# Altium footprint library Inductor_SMD.PcbLib: 587 footprints (part 2 of 37)
Each footprint in its own frame and in the unit in brackets; x right, y up, seen from the top. Pads: shape width x height; smd on the part's side, far side on the other; paste and mask are expansions set on the pad; w line width, h text height; cw(c..) or ccw(c..) is an arc to the next point about the centre after c.
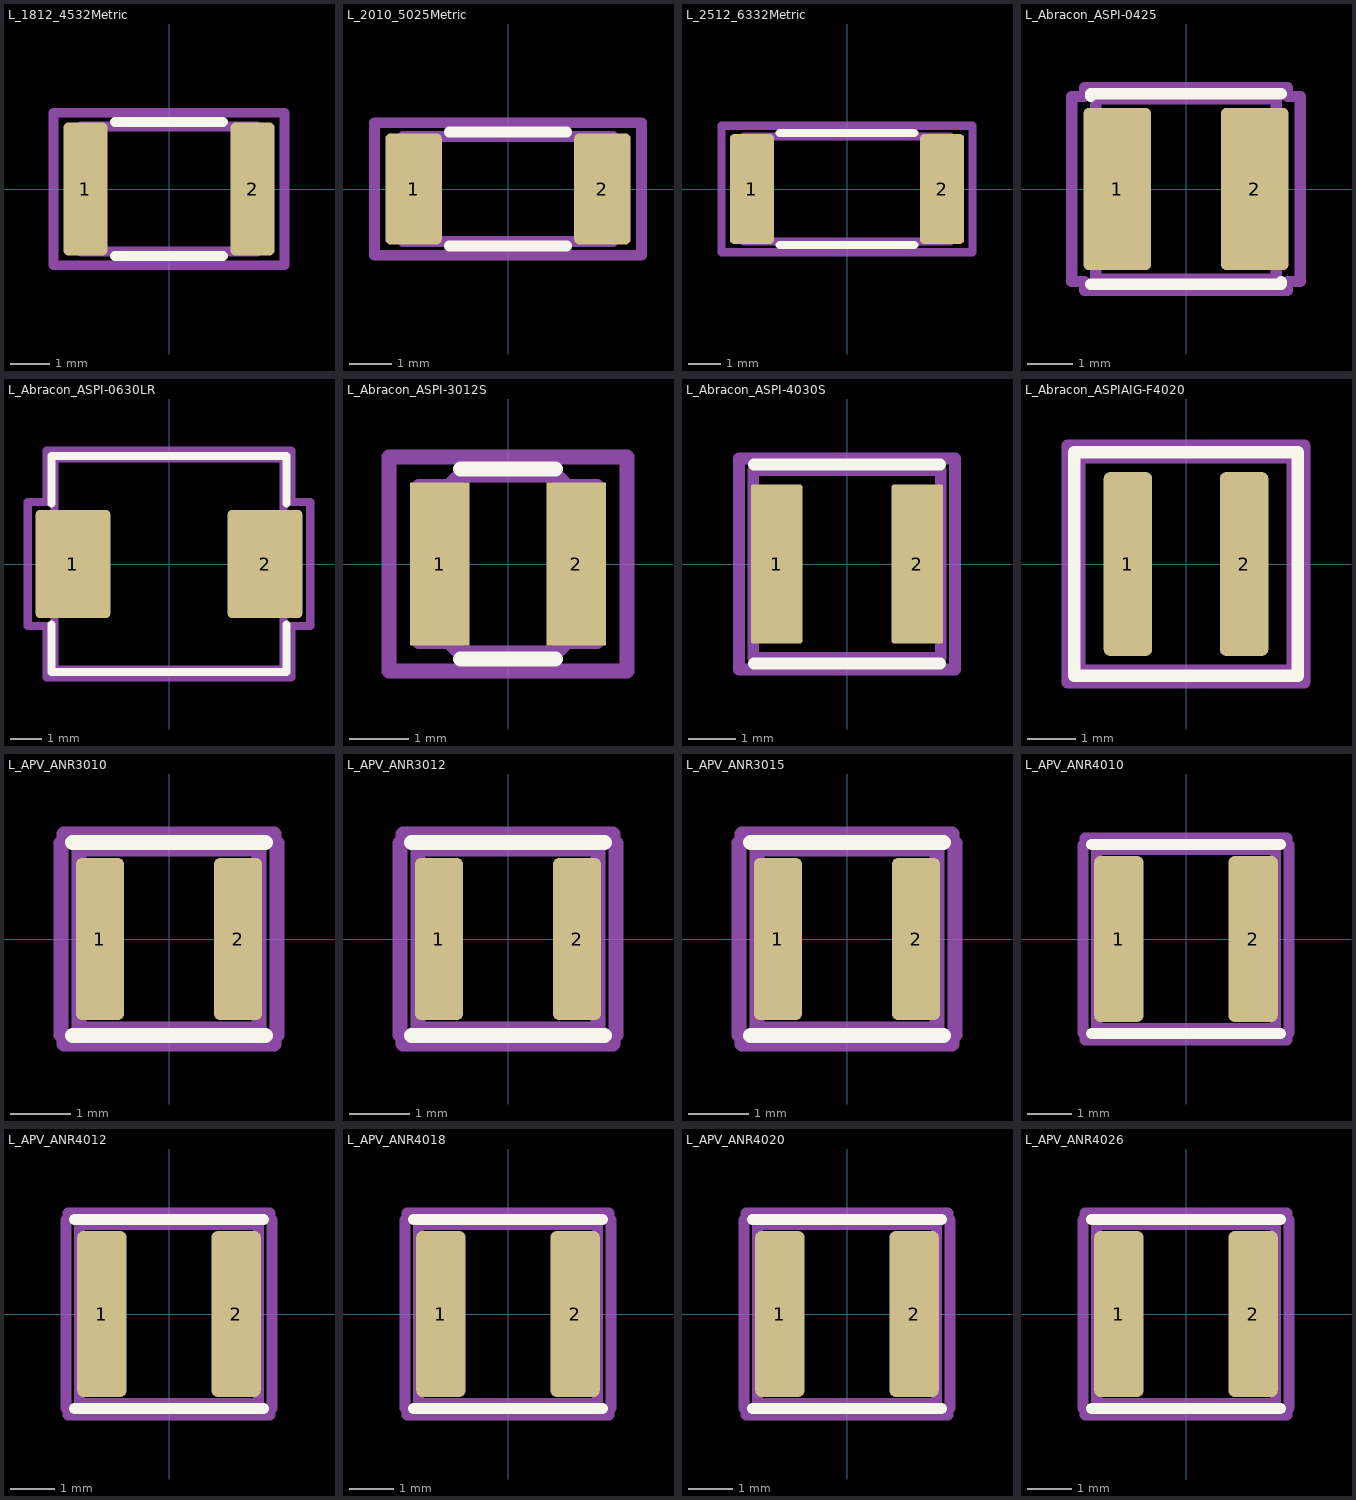
[diagram p1: the footprints below, top view; thin cyan lines are the x and y axes]

## L_1812_4532Metric [mm] "L_1812_4532Metric"
pads (2):
  rrect22% 1.125x3.4 smd: 1(-2.137,0) 2(2.137,0)
F.SilkS:
  lines w0.254: -1.386,-1.71 1.386,-1.71 ; -1.386,1.71 1.386,1.71
Top Assembly:
  lines w0.254: -2.25,-1.6 2.25,-1.6 2.25,1.6 -2.25,1.6 -2.25,-1.6
Top Courtyard:
  lines w0.254: -2.95,-1.95 2.95,-1.95 2.95,1.95 -2.95,1.95 -2.95,-1.95
Top Designator:
  text ".Designator" at -3.434,-0.345 h1.52
3D body "L_1812_4532Metric.step": height 2.5, standoff 0, extent -2.25,-1.6 2.25,1.6

## L_2010_5025Metric [mm] "L_2010_5025Metric"
pads (2):
  rrect19% 1.35x2.65 smd: 1(-2.25,0) 2(2.25,0)
F.SilkS:
  lines w0.254: -1.402,-1.36 1.402,-1.36 ; -1.402,1.36 1.402,1.36
Top Assembly:
  lines w0.254: -2.5,-1.25 -2.5,1.25 2.5,1.25 2.5,-1.25 -2.5,-1.25
Top Courtyard:
  lines w0.254: -3.18,-1.58 -3.18,1.58 3.18,1.58 3.18,-1.58 -3.18,-1.58
Top Designator:
  text ".Designator" at -3.434,-0.345 h1.52
3D body "L_2010_5025Metric.step": height 1.8, standoff 0, extent -2.5,-1.25 2.5,1.25

## L_2512_6332Metric [mm] "L_2512_6332Metric"
pads (2):
  rrect19% 1.35x3.35 smd: 1(-2.9,0) 2(2.9,0)
F.SilkS:
  lines w0.254: -2.052,-1.71 2.052,-1.71 ; -2.052,1.71 2.052,1.71
Top Assembly:
  lines w0.254: -3.15,-1.6 3.15,-1.6 3.15,1.6 -3.15,1.6 -3.15,-1.6
Top Courtyard:
  lines w0.254: -3.83,-1.93 3.83,-1.93 3.83,1.93 -3.83,1.93 -3.83,-1.93
Top Designator:
  text ".Designator" at -3.434,-0.345 h1.52
3D body "L_2512_6332Metric.step": height 3.2, standoff 0, extent -3.15,-1.6 3.15,1.6

## L_Abracon_ASPI-0425 [mm] "L_Abracon_ASPI-0425"
pads (2):
  rrect17% 1.5x3.6 smd: 1(-1.525,0) 2(1.525,0)
F.SilkS:
  lines w0.254: -2.11,-2.11 2.11,-2.11 2.11,-2.06 ; -2.11,2.06 -2.11,2.11 2.11,2.11
Top Assembly:
  lines w0.254: -2,-2 2,-2 2,2 -2,2 -2,-2
Top Courtyard:
  lines w0.254: -2.53,-2.05 -2.25,-2.05 -2.25,-2.25 2.25,-2.25 2.25,-2.05 2.53,-2.05 2.53,2.05 2.25,2.05 2.25,2.25 -2.25,2.25 -2.25,2.05 -2.53,2.05 -2.53,-2.05
Top Designator:
  text ".Designator" at -3.434,-0.345 h1.52
3D body "L_Abracon_ASPI-0425.step": height 2.5, standoff 0, extent -2,-2 2,2

## L_Abracon_ASPI-0630LR [mm] "L_Abracon_ASPI-0630LR"
pads (2):
  rrect10% 2.35x3.4 smd: 1(-3.025,0) 2(3.025,0)
F.SilkS:
  lines w0.254: -3.7,-1.9 -3.7,-3.4 3.7,-3.4 3.7,-1.9 ; -3.7,1.9 -3.7,3.4 3.7,3.4 3.7,1.9
Top Assembly:
  lines w0.254: -3.6,-3.325 -3.6,3.325 3.6,3.325 3.6,-3.325 -3.6,-3.325
Top Courtyard:
  lines w0.254: -4.45,-1.95 -4.45,1.95 -3.85,1.95 -3.85,3.58 3.85,3.58 3.85,1.95 4.45,1.95 4.45,-1.95 3.85,-1.95 3.85,-3.58 -3.85,-3.58 -3.85,-1.95 -4.45,-1.95
Top Designator:
  text ".Designator" at -3.434,-0.345 h1.52

## L_Abracon_ASPI-3012S [mm] "L_Abracon_ASPI-3012S"
pads (2):
  rect 1x2.75 smd: 1(-1.15,0) 2(1.15,0)
F.SilkS:
  lines w0.254: -0.8,-1.6 0.8,-1.6 ; -0.8,1.6 0.8,1.6
Top Assembly:
  lines w0.254: -1.5,-1.3 -1,-1.3 -0.8,-1.5 0.8,-1.5 1,-1.3 1.5,-1.3 1.5,1.3 1,1.3 0.8,1.5 -0.8,1.5 -1,1.3 -1.5,1.3 -1.5,-1.3
Top Courtyard:
  lines w0.254: -2,-1.8 2,-1.8 2,1.8 -2,1.8 -2,-1.8
Top Designator:
  text ".Designator" at -2.253,-0.227 h1

## L_Abracon_ASPI-4030S [mm] "L_Abracon_ASPI-4030S"
pads (2):
  rrect10% 1.1x3.4 smd: 1(-1.5,0) 2(1.5,0)
F.SilkS:
  lines w0.254: -1.99,-2.12 1.99,-2.12 ; -1.99,2.12 1.99,2.12
Top Assembly:
  lines w0.254: -2,-2 2,-2 2,2 -2,2 -2,-2
Top Courtyard:
  lines w0.254: -2.3,-2.25 2.3,-2.25 2.3,2.25 -2.3,2.25 -2.3,-2.25
Top Designator:
  text ".Designator" at -3.434,-0.345 h1.52

## L_Abracon_ASPIAIG-F4020 [mm] "L_Abracon_ASPIAIG-F4020"
pads (2):
  rrect25% 1x3.8 smd: 1(-1.2,0) 2(1.2,0)
F.SilkS:
  lines w0.254: -2.31,-2.31 -2.31,2.31 2.31,2.31 2.31,-2.31 -2.31,-2.31
Top Assembly:
  lines w0.254: -2.2,-2.2 -2.2,2.2 2.2,2.2 2.2,-2.2 -2.2,-2.2
Top Courtyard:
  lines w0.254: -2.45,-2.45 -2.45,2.45 2.45,2.45 2.45,-2.45 -2.45,-2.45
Top Designator:
  text ".Designator" at -3.434,-0.345 h1.52
3D body "L_Abracon_ASPIAIG-F4020.step": height 1.9, standoff 0, extent -2.2,-2.2 2.2,2.2

## L_APV_ANR3010 [mm] "L_APV_ANR3010"
pads (2):
  rrect25% 0.8x2.7 smd: 1(-1.15,0) 2(1.15,0)
F.SilkS:
  lines w0.254: -1.61,-1.61 1.61,-1.61 ; -1.61,1.61 1.61,1.61
Top Assembly:
  lines w0.254: -1.5,-1.5 -1.5,1.5 1.5,1.5 1.5,-1.5 -1.5,-1.5
Top Courtyard:
  lines w0.254: -1.8,-1.6 -1.8,1.6 -1.75,1.6 -1.75,1.75 1.75,1.75 1.75,1.6 1.8,1.6 1.8,-1.6 1.75,-1.6 1.75,-1.75 -1.75,-1.75 -1.75,-1.6 -1.8,-1.6
Top Designator:
  text ".Designator" at -2.253,-0.227 h1
3D body "L_APV_ANR3010.step": height 1, standoff 0, extent -1.51,-1.5 1.51,1.5

## L_APV_ANR3012 [mm] "L_APV_ANR3012"
pads (2):
  rrect25% 0.8x2.7 smd: 1(-1.15,0) 2(1.15,0)
F.SilkS:
  lines w0.254: -1.61,-1.61 1.61,-1.61 ; -1.61,1.61 1.61,1.61
Top Assembly:
  lines w0.254: -1.5,-1.5 -1.5,1.5 1.5,1.5 1.5,-1.5 -1.5,-1.5
Top Courtyard:
  lines w0.254: -1.8,-1.6 -1.8,1.6 -1.75,1.6 -1.75,1.75 1.75,1.75 1.75,1.6 1.8,1.6 1.8,-1.6 1.75,-1.6 1.75,-1.75 -1.75,-1.75 -1.75,-1.6 -1.8,-1.6
Top Designator:
  text ".Designator" at -2.253,-0.227 h1
3D body "L_APV_ANR3012.step": height 1.2, standoff 0, extent -1.51,-1.5 1.51,1.5

## L_APV_ANR3015 [mm] "L_APV_ANR3015"
pads (2):
  rrect25% 0.8x2.7 smd: 1(-1.15,0) 2(1.15,0)
F.SilkS:
  lines w0.254: -1.61,-1.61 1.61,-1.61 ; -1.61,1.61 1.61,1.61
Top Assembly:
  lines w0.254: -1.5,-1.5 -1.5,1.5 1.5,1.5 1.5,-1.5 -1.5,-1.5
Top Courtyard:
  lines w0.254: -1.8,-1.6 -1.8,1.6 -1.75,1.6 -1.75,1.75 1.75,1.75 1.75,1.6 1.8,1.6 1.8,-1.6 1.75,-1.6 1.75,-1.75 -1.75,-1.75 -1.75,-1.6 -1.8,-1.6
Top Designator:
  text ".Designator" at -2.253,-0.227 h1
3D body "L_APV_ANR3015.step": height 1.5, standoff 0, extent -1.51,-1.5 1.51,1.5

## L_APV_ANR4010 [mm] "L_APV_ANR4010"
pads (2):
  rrect23% 1.1x3.7 smd: 1(-1.5,0) 2(1.5,0)
F.SilkS:
  lines w0.254: -2.11,-2.11 2.11,-2.11 ; -2.11,2.11 2.11,2.11
Top Assembly:
  lines w0.254: -2,-2 -2,2 2,2 2,-2 -2,-2
Top Courtyard:
  lines w0.254: -2.3,-2.1 -2.3,2.1 -2.25,2.1 -2.25,2.25 2.25,2.25 2.25,2.1 2.3,2.1 2.3,-2.1 2.25,-2.1 2.25,-2.25 -2.25,-2.25 -2.25,-2.1 -2.3,-2.1
Top Designator:
  text ".Designator" at -3.434,-0.345 h1.52
3D body "L_APV_ANR4010.step": height 1, standoff 0, extent -2.01,-2 2.01,2

## L_APV_ANR4012 [mm] "L_APV_ANR4012"
pads (2):
  rrect23% 1.1x3.7 smd: 1(-1.5,0) 2(1.5,0)
F.SilkS:
  lines w0.254: -2.11,-2.11 2.11,-2.11 ; -2.11,2.11 2.11,2.11
Top Assembly:
  lines w0.254: -2,-2 2,-2 2,2 -2,2 -2,-2
Top Courtyard:
  lines w0.254: -2.3,-2.1 -2.25,-2.1 -2.25,-2.25 2.25,-2.25 2.25,-2.1 2.3,-2.1 2.3,2.1 2.25,2.1 2.25,2.25 -2.25,2.25 -2.25,2.1 -2.3,2.1 -2.3,-2.1
Top Designator:
  text ".Designator" at -3.434,-0.345 h1.52
3D body "L_APV_ANR4012.step": height 1.2, standoff 0, extent -2.01,-2 2.01,2

## L_APV_ANR4018 [mm] "L_APV_ANR4018"
pads (2):
  rrect23% 1.1x3.7 smd: 1(-1.5,0) 2(1.5,0)
F.SilkS:
  lines w0.254: -2.11,-2.11 2.11,-2.11 ; -2.11,2.11 2.11,2.11
Top Assembly:
  lines w0.254: -2,-2 2,-2 2,2 -2,2 -2,-2
Top Courtyard:
  lines w0.254: -2.3,-2.1 -2.25,-2.1 -2.25,-2.25 2.25,-2.25 2.25,-2.1 2.3,-2.1 2.3,2.1 2.25,2.1 2.25,2.25 -2.25,2.25 -2.25,2.1 -2.3,2.1 -2.3,-2.1
Top Designator:
  text ".Designator" at -3.434,-0.345 h1.52
3D body "L_APV_ANR4018.step": height 1.8, standoff 0, extent -2.01,-2 2.01,2

## L_APV_ANR4020 [mm] "L_APV_ANR4020"
pads (2):
  rrect23% 1.1x3.7 smd: 1(-1.5,0) 2(1.5,0)
F.SilkS:
  lines w0.254: -2.11,-2.11 2.11,-2.11 ; -2.11,2.11 2.11,2.11
Top Assembly:
  lines w0.254: -2,-2 2,-2 2,2 -2,2 -2,-2
Top Courtyard:
  lines w0.254: -2.3,-2.1 -2.25,-2.1 -2.25,-2.25 2.25,-2.25 2.25,-2.1 2.3,-2.1 2.3,2.1 2.25,2.1 2.25,2.25 -2.25,2.25 -2.25,2.1 -2.3,2.1 -2.3,-2.1
Top Designator:
  text ".Designator" at -3.434,-0.345 h1.52
3D body "L_APV_ANR4020.step": height 2, standoff 0, extent -2.01,-2 2.01,2

## L_APV_ANR4026 [mm] "L_APV_ANR4026"
pads (2):
  rrect23% 1.1x3.7 smd: 1(-1.5,0) 2(1.5,0)
F.SilkS:
  lines w0.254: -2.11,-2.11 2.11,-2.11 ; -2.11,2.11 2.11,2.11
Top Assembly:
  lines w0.254: -2,-2 2,-2 2,2 -2,2 -2,-2
Top Courtyard:
  lines w0.254: -2.3,-2.1 -2.25,-2.1 -2.25,-2.25 2.25,-2.25 2.25,-2.1 2.3,-2.1 2.3,2.1 2.25,2.1 2.25,2.25 -2.25,2.25 -2.25,2.1 -2.3,2.1 -2.3,-2.1
Top Designator:
  text ".Designator" at -3.434,-0.345 h1.52
3D body "L_APV_ANR4026.step": height 2.6, standoff 0, extent -2.01,-2 2.01,2